# Altium footprint library basic01_resistors.pcblib: 19 footprints (part 2 of 2)
Each footprint in its own frame and in the unit in brackets; x right, y up, seen from the top. Pads: shape width x height; smd on the part's side, far side on the other; paste and mask are expansions set on the pad; w line width, h text height; cw(c..) or ccw(c..) is an arc to the next point about the centre after c.
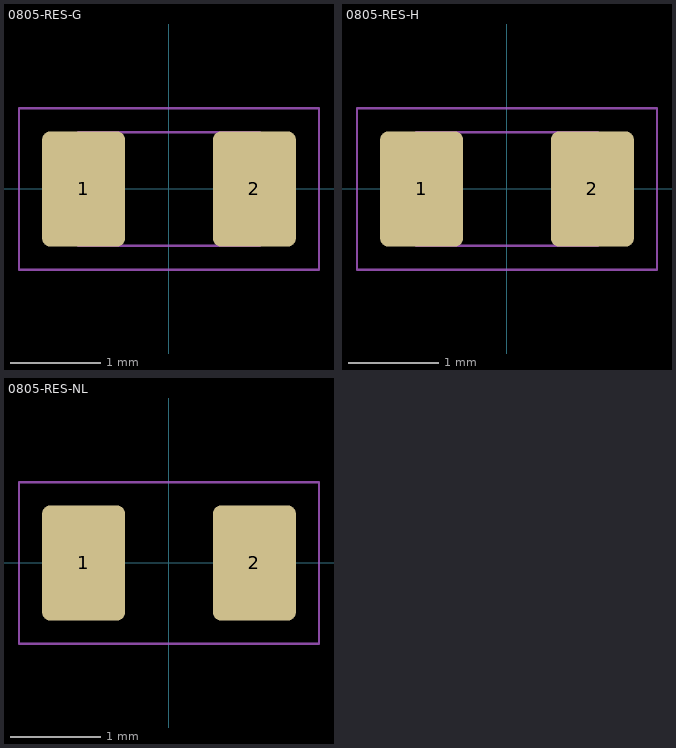
[diagram p1: the footprints below, top view; thin cyan lines are the x and y axes]

## 0805-RES-G [mil] "Resistor, 0805, 1%, Low ppm"
pads (2):
  rrect20% 36x50 smd paste-3 mask+2: 1(-37,0) 2(37,0)
Mechanical 15:
  lines w1: -65,-35 65,-35 65,35 -65,35 -65,-35
Mechanical 16:
  lines w1: -23.62,-24.61 -23.62,24.61 ; 23.62,-24.61 23.62,24.61 ; -39.37,-24.61 39.37,-24.61 39.37,24.61 -39.37,24.61 -39.37,-24.61
3D body: height 21, standoff 0, extent -39,-24 -23,24
3D body: height 20, standoff 19, extent -38.37,-24.61 38.37,24.61
3D body: height 19, standoff 1, extent -38.37,-24.61 38.37,24.61
3D body: height 21, standoff 0, extent 23,-24 39,24

## 0805-RES-H [mil] "Resistor, 0805, 1%"
pads (2):
  rrect20% 36x50 smd paste-3 mask+2: 1(-37,0) 2(37,0)
Mechanical 15:
  lines w1: -65,-35 65,-35 65,35 -65,35 -65,-35
Mechanical 16:
  lines w1: -23.62,-24.61 -23.62,24.61 ; 23.62,-24.61 23.62,24.61 ; -39.37,-24.61 39.37,-24.61 39.37,24.61 -39.37,24.61 -39.37,-24.61
3D body: height 21, standoff 0, extent -39,-24 -23,24
3D body: height 20, standoff 19, extent -38.37,-24.61 38.37,24.61
3D body: height 19, standoff 1, extent -38.37,-24.61 38.37,24.61
3D body: height 21, standoff 0, extent 23,-24 39,24

## 0805-RES-NL [mil] "Resistor, 0805, NO LOAD"
pads (2):
  rrect20% 36x50 smd paste-3 mask+2: 1(-37,0) 2(37,0)
Mechanical 15:
  lines w1: -65,-35 65,-35 65,35 -65,35 -65,-35